# Altium schematic symbol library LSM6DSO32TR.SchLib: 1 symbol
Pins are listed as number, name and electrical type; pins without a type are passive.

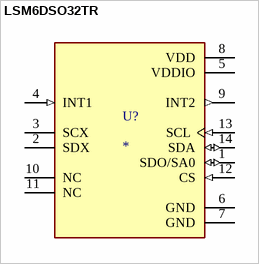
[diagram p0: symbol LSM6DSO32TR]

## LSM6DSO32TR
designator U?
Accelerometer, Gyroscope, Temperature, 6 Axis Sensor IÂ²C, SPI Output; MF: STMicroelectronics; MP: LSM6DSO32TR; SnapEDA_Link: https://www.snapeda.com/parts/LSM6DSO32TR/STMicroelectronics/view-part/?ref=snap; Package: VFLGA-14 STMicroelectronics; Value: *; Check_prices: https://www.snapeda.com/parts/LSM6DSO32TR/STMicroelectronics/view-part/?ref=eda
footprint XDCR_LSM6DSO32TR
pins: 1 SDO/SA0 (io), 2 SDX, 3 SCX, 4 INT1 (in), 5 VDDIO (power), 6 GND (power), 7 GND (power), 8 VDD (power), 9 INT2 (out), 10 NC, 11 NC, 12 CS (in), 13 SCL (in), 14 SDA (io)